# EAGLE library part MA05-2-2MM (library D21_v39)
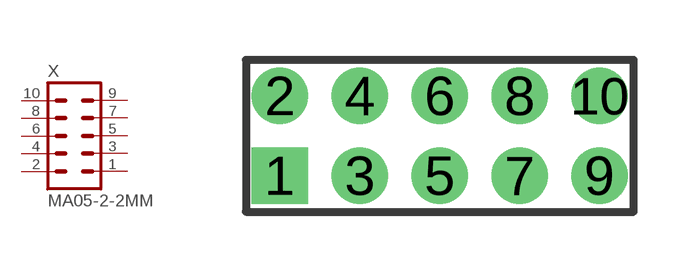
[diagram p6: symbol with the pads of MA5-2-2MM; footprint MA5-2-2MM]

Designator prefix X

## MA05-2-2MM  [MA5-2-2MM]
1  1  pas
2  2  pas
3  3  pas
4  4  pas
5  5  pas
6  6  pas
7  7  pas
8  8  pas
9  9  pas
10  10  pas

## Footprint MA5-2-2MM (pad centres in mm)
10 Pin - 2mm Dual Row Source: www.mpe-connector.de / garry_shortform_2012.pdf
drill 0.9 pad 1.27 square: 1 -4,-1
drill 0.9 pad 1.27: 2 -4,1; 3 -2,-1; 4 -2,1; 5 0,-1; 6 0,1; 7 2,-1; 8 2,1; 9 4,-1; 10 4,1